# EAGLE library part MICROSD (library card_adapters)
microSD card holder, with card detect switch
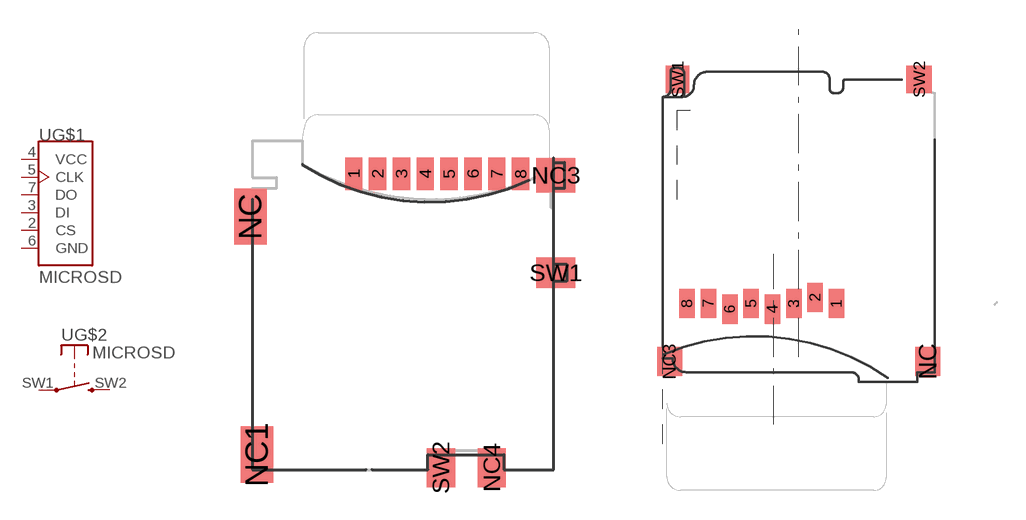
[diagram p6: symbol with the pads of YAM_PJS008; footprints YAM_PJS008, ALPS_MICROSD]

Designator prefix -; gates G$1=MICROSD G$2=TASTER

## MICROSDY  [YAM_PJS008]
2  G$1:CS
3  G$1:DI
4  G$1:VCC  pas
5  G$1:CLK
6  G$1:GND  sup
7  G$1:DO
SW1  G$2:P  pas
SW2  G$2:S  pas

## MICROSDA  [ALPS_MICROSD]
Pads as for YAM_PJS008

## Footprint YAM_PJS008 (pad centres in mm)
Yamaichi PJS008-21x0 series, Yamaichi PJS008-2100, 1.5mm high
smd 0.8 x 1.5: 1 -2.625,6.075; 2 -1.525,6.075; 3 -0.425,6.075; 4 0.675,6.075; 5 1.775,6.075; 6 2.875,6.075; 7 3.975,6.075; 8 5.075,6.075
smd 1.5 x 2.6: NC -7.4,4.1; NC1 -7.1,-6.9
smd 1.8 x 1.6: NC3 6.7,6
smd 1.3 x 1.8: NC4 3.75,-7.5; SW2 1.4,-7.5
smd 1.8 x 1.4: SW1 6.7,1.5

## Footprint ALPS_MICROSD (pad centres in mm)
Alps
smd 0.8 x 1.5: 1 3.25,-3.25; 2 2.15,-2.95; 3 1.05,-3.25; 4 -0.05,-3.55; 5 -1.15,-3.25; 6 -2.25,-3.55; 7 -3.35,-3.25; 8 -4.45,-3.25
smd 1.3 x 1.5: NC 7.95,-6.25; NC3 -5.35,-6.25
smd 1.2 x 1.4: SW1 -4.95,8.3
smd 1.3 x 1.4: SW2 7.5,8.3